# Altium footprint library Components - 14.05.23 - 03.50.PcbLib: 4 footprints
Each footprint in its own frame and in the unit in brackets; x right, y up, seen from the top. Pads: shape width x height; smd on the part's side, far side on the other; paste and mask are expansions set on the pad; w line width, h text height; cw(c..) or ccw(c..) is an arc to the next point about the centre after c.
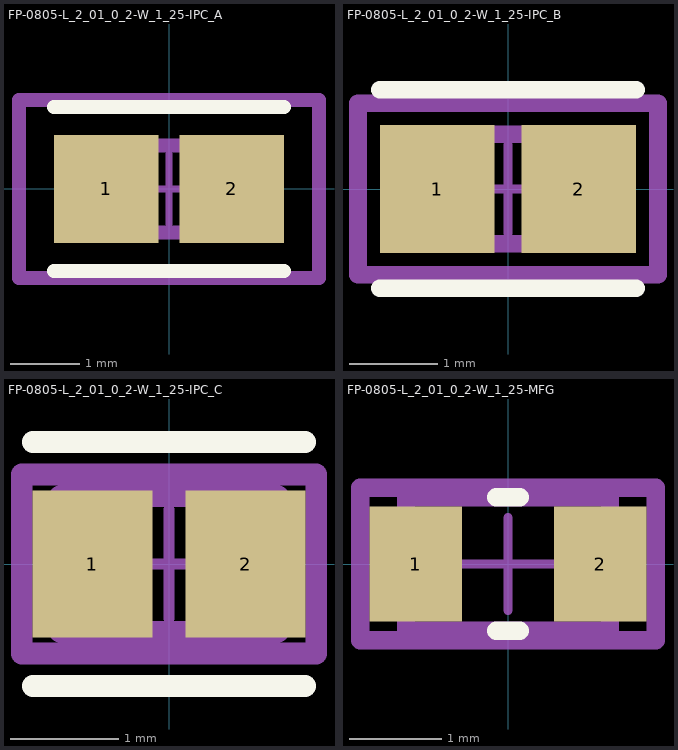
[diagram p0: the footprints below, top view; thin cyan lines are the x and y axes]

## FP-0805-L_2_01_0_2-W_1_25-IPC_A [mm]
pads (2):
  rect 1.505x1.556 smd paste+0 mask+0: 1(-0.906,0) 2(0.906,0)
Top Overlay:
  lines w0.2: -1.658,-1.178 1.658,-1.178 ; -1.658,1.178 1.658,1.178
Top Assembly:
  lines w0.2: -2.158,-1.278 2.158,-1.278 2.158,1.278 -2.158,1.278 -2.158,-1.278
  text ".Designator" at 0,0.188 h1
Top 3D Body:
  lines w0.2: -1.005,-0.625 1.005,-0.625 1.005,0.625 -1.005,0.625 -1.005,-0.625
Top Courtyard:
  lines w0.2: -2.158,-1.278 2.158,-1.278 2.158,1.278 -2.158,1.278 -2.158,-1.278
Top Component Center:
  lines w0.1: -0.5,0 0.5,0 ; 0,-0.5 0,0.5
3D body "Cap_AVX_0805YA0R5BAT2A_eec.STEP": height 0.25, standoff 0, extent -2.158,-1.278 2.158,1.278

## FP-0805-L_2_01_0_2-W_1_25-IPC_B [mm]
pads (2):
  rect 1.305x1.456 smd paste+0 mask+0: 1(-0.806,0) 2(0.806,0)
Top Overlay:
  lines w0.2: -1.458,-1.128 1.458,-1.128 ; -1.458,1.128 1.458,1.128
Top Assembly:
  lines w0.2: -1.708,-0.978 1.708,-0.978 1.708,0.978 -1.708,0.978 -1.708,-0.978
  text ".Designator" at 0,0.188 h1
Top 3D Body:
  lines w0.2: -1.005,-0.625 1.005,-0.625 1.005,0.625 -1.005,0.625 -1.005,-0.625
Top Courtyard:
  lines w0.2: -1.708,-0.978 1.708,-0.978 1.708,0.978 -1.708,0.978 -1.708,-0.978
Top Component Center:
  lines w0.1: -0.5,0 0.5,0 ; 0,-0.5 0,0.5
3D body "Cap_AVX_0805YA0R5BAT2A_eec.STEP": height 0.25, standoff 0, extent -1.708,-0.978 1.708,0.978

## FP-0805-L_2_01_0_2-W_1_25-IPC_C [mm]
pads (2):
  rect 1.105x1.356 smd paste+0 mask+0: 1(-0.706,0) 2(0.706,0)
Top Overlay:
  lines w0.2: -1.258,-1.125 1.258,-1.125 ; -1.258,1.125 1.258,1.125
Top Assembly:
  lines w0.2: -1.358,-0.825 1.358,-0.825 1.358,0.825 -1.358,0.825 -1.358,-0.825
  text ".Designator" at 0,0.188 h1
Top 3D Body:
  lines w0.2: -1.005,-0.625 1.005,-0.625 1.005,0.625 -1.005,0.625 -1.005,-0.625
Top Courtyard:
  lines w0.2: -1.358,-0.825 1.358,-0.825 1.358,0.825 -1.358,0.825 -1.358,-0.825
Top Component Center:
  lines w0.1: -0.5,0 0.5,0 ; 0,-0.5 0,0.5
3D body "Cap_AVX_0805YA0R5BAT2A_eec.STEP": height 0.25, standoff 0, extent -1.358,-0.825 1.358,0.825

## FP-0805-L_2_01_0_2-W_1_25-MFG [mm]
pads (2):
  rect 1x1.25 smd paste+0 mask+0: 1(-1,0) 2(1,0)
Top Overlay:
  lines w0.2: -0.125,-0.725 0.125,-0.725 ; -0.125,0.725 0.125,0.725
Top Assembly:
  lines w0.2: -1.6,-0.825 1.6,-0.825 1.6,0.825 -1.6,0.825 -1.6,-0.825
  text ".Designator" at 0,0.188 h1
Top 3D Body:
  lines w0.2: -1.105,-0.725 1.105,-0.725 1.105,0.725 -1.105,0.725 -1.105,-0.725
Top Courtyard:
  lines w0.2: -1.6,-0.825 1.6,-0.825 1.6,0.825 -1.6,0.825 -1.6,-0.825
Top Component Center:
  lines w0.1: -0.5,0 0.5,0 ; 0,-0.5 0,0.5
3D body "Cap_AVX_0805YA0R5BAT2A_eec.STEP": height 0.25, standoff 0, extent -1.6,-0.825 1.6,0.825